# Altium footprint library DIODES_DMP34M4SPS-13.PcbLib: 1 footprints
Each footprint in its own frame and in the unit in brackets; x right, y up, seen from the top. Pads: shape width x height; smd on the part's side, far side on the other; paste and mask are expansions set on the pad; w line width, h text height; cw(c..) or ccw(c..) is an arc to the next point about the centre after c.
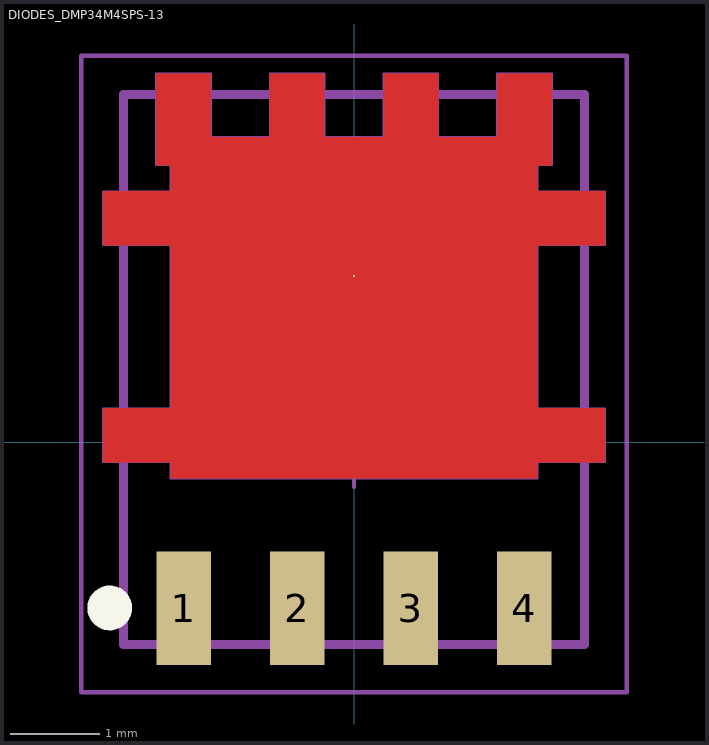
[diagram p0: the footprint, top view; thin cyan lines are the x and y axes]

## DIODES_DMP34M4SPS-13 [mm] "DIODES_DIODES_DMP34M4SPS-13"
height 1.1
pads (5):
  rect 0.61x1.27 smd paste-0.05 mask+0.075: 1(-1.905,-1.857) 2(-0.635,-1.857) 3(0.635,-1.857) 4(1.905,-1.857)
  round 0.025 smd paste-2539.97 mask+0.075: 5(0,1.858)
Top Layer:
  region: -2.805,-0.222 -2.05,-0.222 -2.05,-0.402 2.05,-0.402 2.05,-0.222 2.805,-0.222 2.805,0.377 2.05,0.377 2.05,2.203 2.805,2.203 2.805,2.802 2.05,2.802 2.05,3.097 2.21,3.097 2.21,4.118 1.6,4.118 1.6,3.408 0.94,3.408 0.94,4.118 0.33,4.118 0.33,3.408 -0.33,3.408 -0.33,4.118 -0.94,4.118 -0.94,3.408 -1.6,3.408 -1.6,4.118 -2.21,4.118 -2.21,3.097 -2.05,3.097 -2.05,2.802 -2.805,2.802 -2.805,2.203 -2.05,2.203 -2.05,0.377 -2.805,0.377
Top Overlay:
  circle w0.25: c-2.73,-1.852 r0.125
Top Paste:
  rectangle: -2.16,3.148 -1.65,4.068
  region: -1.6,1.743 -1.6,1.143 -0.7,1.143 -0.7,1.743
  region: -0.45,1.743 -0.45,1.143 0.45,1.143 0.45,1.743
  region: 0.7,1.743 0.7,1.143 1.6,1.143 1.6,1.743
  region: -1.6,0.893 -1.6,0.293 -0.7,0.293 -0.7,0.893
  region: -0.45,0.893 -0.45,0.293 0.45,0.293 0.45,0.893
  region: 0.7,0.893 0.7,0.293 1.6,0.293 1.6,0.893
  region: 1.6,1.993 1.6,2.593 0.7,2.593 0.7,1.993
  region: 0.45,1.993 0.45,2.593 -0.45,2.593 -0.45,1.993
  region: -0.7,1.993 -0.7,2.593 -1.6,2.593 -1.6,1.993
  rectangle: -0.89,3.148 -0.38,4.068
  rectangle: 0.38,3.148 0.89,4.068
  rectangle: 1.65,3.148 2.16,4.068
Top 3D Body:
  lines w0.1: -2.575,-2.262 2.575,-2.262 2.575,3.888 -2.575,3.888 -2.575,-2.262
Top Courtyard:
  lines w0.05: -0.5,0 0.5,0 ; 0,-0.5 0,0.5 ; -3.048,-2.794 -3.048,4.318 3.048,4.318 3.048,-2.794 -3.048,-2.794
P1:
  lines w0.025: -2.21,3.097 -2.21,3.098 ; -2.21,3.098 -2.21,4.118 -1.6,4.118 -1.6,3.408 -0.94,3.408 -0.94,4.118 -0.33,4.118 -0.33,3.408 0.33,3.408 0.33,4.118 0.94,4.118 0.94,3.408 1.6,3.408 1.6,4.118 2.21,4.118 2.21,3.098 ; -2.21,3.097 -2.05,3.097 -2.05,2.802 -2.805,2.802 -2.805,2.203 -2.05,2.203 -2.05,0.377 -2.805,0.377 -2.805,-0.222 -2.05,-0.222 -2.05,-0.402 2.05,-0.402 2.05,-0.222 2.805,-0.222 2.805,0.377 2.05,0.377 2.05,2.203 2.805,2.203 2.805,2.802 2.05,2.802 2.05,3.097 2.21,3.097 ; 2.21,3.097 2.21,3.098
3D body: height 1.1, standoff 0, extent -2.575,-2.262 2.575,3.888